# Altium footprint library QFP_Shrink_Sq_40P_Side_N.PcbLib: 26 footprints (part 3 of 3)
Each footprint in its own frame and in the unit in brackets; x right, y up, seen from the top. Pads: shape width x height; smd on the part's side, far side on the other; paste and mask are expansions set on the pad; w line width, h text height; cw(c..) or ccw(c..) is an arc to the next point about the centre after c.
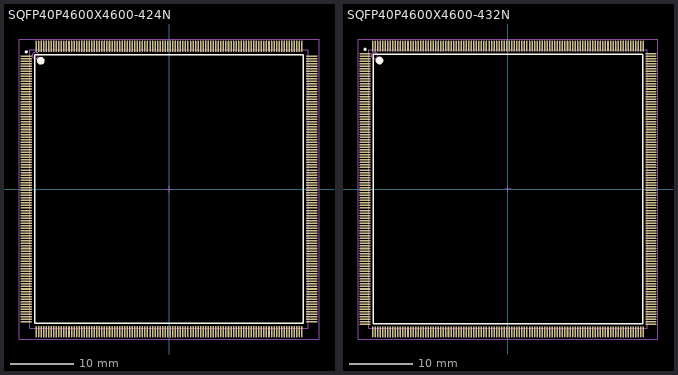
[diagram p2: the footprints below, top view; thin cyan lines are the x and y axes]

## SQFP40P4600X4600-424N [mm] "Shrink QFP, 424-Leads, Body 44x44mm, Pitch 0.4mm, IPC Medium Density"
height 4.2
pads (424):
  oval 1.8x0.24 smd: 1(-22.55,21) 2(-22.55,20.6) 3(-22.55,20.2) 4(-22.55,19.8) 5(-22.55,19.4) 6(-22.55,19) 7(-22.55,18.6) 8(-22.55,18.2) 9(-22.55,17.8) 10(-22.55,17.4) 11(-22.55,17) 12(-22.55,16.6) 13(-22.55,16.2) 14(-22.55,15.8) 15(-22.55,15.4) 16(-22.55,15) 17(-22.55,14.6) 18(-22.55,14.2) 19(-22.55,13.8) 20(-22.55,13.4) 21(-22.55,13) 22(-22.55,12.6) 23(-22.55,12.2) 24(-22.55,11.8) 25(-22.55,11.4) 26(-22.55,11) 27(-22.55,10.6) 28(-22.55,10.2) 29(-22.55,9.8) 30(-22.55,9.4) 31(-22.55,9) 32(-22.55,8.6) 33(-22.55,8.2) 34(-22.55,7.8) 35(-22.55,7.4) 36(-22.55,7) 37(-22.55,6.6) 38(-22.55,6.2) 39(-22.55,5.8) 40(-22.55,5.4) 41(-22.55,5) 42(-22.55,4.6) 43(-22.55,4.2) 44(-22.55,3.8) 45(-22.55,3.4) 46(-22.55,3) 47(-22.55,2.6) 48(-22.55,2.2) 49(-22.55,1.8) 50(-22.55,1.4) 51(-22.55,1) 52(-22.55,0.6) 53(-22.55,0.2) 54(-22.55,-0.2) 55(-22.55,-0.6) 56(-22.55,-1) 57(-22.55,-1.4) 58(-22.55,-1.8) 59(-22.55,-2.2) 60(-22.55,-2.6) 61(-22.55,-3) 62(-22.55,-3.4) 63(-22.55,-3.8) 64(-22.55,-4.2) 65(-22.55,-4.6) 66(-22.55,-5) 67(-22.55,-5.4) 68(-22.55,-5.8) 69(-22.55,-6.2) 70(-22.55,-6.6) 71(-22.55,-7) 72(-22.55,-7.4) 73(-22.55,-7.8) 74(-22.55,-8.2) 75(-22.55,-8.6) 76(-22.55,-9) 77(-22.55,-9.4) 78(-22.55,-9.8) 79(-22.55,-10.2) 80(-22.55,-10.6) 81(-22.55,-11) 82(-22.55,-11.4) 83(-22.55,-11.8) 84(-22.55,-12.2) 85(-22.55,-12.6) 86(-22.55,-13) 87(-22.55,-13.4) 88(-22.55,-13.8) 89(-22.55,-14.2) 90(-22.55,-14.6) 91(-22.55,-15) 92(-22.55,-15.4) 93(-22.55,-15.8) 94(-22.55,-16.2) 95(-22.55,-16.6) 96(-22.55,-17) 97(-22.55,-17.4) 98(-22.55,-17.8) 99(-22.55,-18.2) 100(-22.55,-18.6) 101(-22.55,-19) 102(-22.55,-19.4) 103(-22.55,-19.8) 104(-22.55,-20.2) 105(-22.55,-20.6) 106(-22.55,-21) 213(22.55,-21) 214(22.55,-20.6) 215(22.55,-20.2) 216(22.55,-19.8) 217(22.55,-19.4) 218(22.55,-19) 219(22.55,-18.6) 220(22.55,-18.2) 221(22.55,-17.8) 222(22.55,-17.4) 223(22.55,-17) 224(22.55,-16.6) 225(22.55,-16.2) 226(22.55,-15.8) 227(22.55,-15.4) 228(22.55,-15) 229(22.55,-14.6) 230(22.55,-14.2) 231(22.55,-13.8) 232(22.55,-13.4) 233(22.55,-13) 234(22.55,-12.6) 235(22.55,-12.2) 236(22.55,-11.8) 237(22.55,-11.4) 238(22.55,-11) 239(22.55,-10.6) 240(22.55,-10.2) 241(22.55,-9.8) 242(22.55,-9.4) 243(22.55,-9) 244(22.55,-8.6) 245(22.55,-8.2) 246(22.55,-7.8) 247(22.55,-7.4) 248(22.55,-7) 249(22.55,-6.6) 250(22.55,-6.2) 251(22.55,-5.8) 252(22.55,-5.4) 253(22.55,-5) 254(22.55,-4.6) 255(22.55,-4.2) 256(22.55,-3.8) 257(22.55,-3.4) 258(22.55,-3) 259(22.55,-2.6) 260(22.55,-2.2) 261(22.55,-1.8) 262(22.55,-1.4) 263(22.55,-1) 264(22.55,-0.6) 265(22.55,-0.2) 266(22.55,0.2) 267(22.55,0.6) 268(22.55,1) 269(22.55,1.4) 270(22.55,1.8) 271(22.55,2.2) 272(22.55,2.6) 273(22.55,3) 274(22.55,3.4) 275(22.55,3.8) 276(22.55,4.2) 277(22.55,4.6) 278(22.55,5) 279(22.55,5.4) 280(22.55,5.8) 281(22.55,6.2) 282(22.55,6.6) 283(22.55,7) 284(22.55,7.4) 285(22.55,7.8) 286(22.55,8.2) 287(22.55,8.6) 288(22.55,9) 289(22.55,9.4) 290(22.55,9.8) 291(22.55,10.2) 292(22.55,10.6) 293(22.55,11) 294(22.55,11.4) 295(22.55,11.8) 296(22.55,12.2) 297(22.55,12.6) 298(22.55,13) 299(22.55,13.4) 300(22.55,13.8) 301(22.55,14.2) 302(22.55,14.6) 303(22.55,15) 304(22.55,15.4) 305(22.55,15.8) 306(22.55,16.2) 307(22.55,16.6) 308(22.55,17) 309(22.55,17.4) 310(22.55,17.8) 311(22.55,18.2) 312(22.55,18.6) 313(22.55,19) 314(22.55,19.4) 315(22.55,19.8) 316(22.55,20.2) 317(22.55,20.6) 318(22.55,21)
  oval 0.24x1.8 smd: 107(-21,-22.55) 108(-20.6,-22.55) 109(-20.2,-22.55) 110(-19.8,-22.55) 111(-19.4,-22.55) 112(-19,-22.55) 113(-18.6,-22.55) 114(-18.2,-22.55) 115(-17.8,-22.55) 116(-17.4,-22.55) 117(-17,-22.55) 118(-16.6,-22.55) 119(-16.2,-22.55) 120(-15.8,-22.55) 121(-15.4,-22.55) 122(-15,-22.55) 123(-14.6,-22.55) 124(-14.2,-22.55) 125(-13.8,-22.55) 126(-13.4,-22.55) 127(-13,-22.55) 128(-12.6,-22.55) 129(-12.2,-22.55) 130(-11.8,-22.55) 131(-11.4,-22.55) 132(-11,-22.55) 133(-10.6,-22.55) 134(-10.2,-22.55) 135(-9.8,-22.55) 136(-9.4,-22.55) 137(-9,-22.55) 138(-8.6,-22.55) 139(-8.2,-22.55) 140(-7.8,-22.55) 141(-7.4,-22.55) 142(-7,-22.55) 143(-6.6,-22.55) 144(-6.2,-22.55) 145(-5.8,-22.55) 146(-5.4,-22.55) 147(-5,-22.55) 148(-4.6,-22.55) 149(-4.2,-22.55) 150(-3.8,-22.55) 151(-3.4,-22.55) 152(-3,-22.55) 153(-2.6,-22.55) 154(-2.2,-22.55) 155(-1.8,-22.55) 156(-1.4,-22.55) 157(-1,-22.55) 158(-0.6,-22.55) 159(-0.2,-22.55) 160(0.2,-22.55) 161(0.6,-22.55) 162(1,-22.55) 163(1.4,-22.55) 164(1.8,-22.55) 165(2.2,-22.55) 166(2.6,-22.55) 167(3,-22.55) 168(3.4,-22.55) 169(3.8,-22.55) 170(4.2,-22.55) 171(4.6,-22.55) 172(5,-22.55) 173(5.4,-22.55) 174(5.8,-22.55) 175(6.2,-22.55) 176(6.6,-22.55) 177(7,-22.55) 178(7.4,-22.55) 179(7.8,-22.55) 180(8.2,-22.55) 181(8.6,-22.55) 182(9,-22.55) 183(9.4,-22.55) 184(9.8,-22.55) 185(10.2,-22.55) 186(10.6,-22.55) 187(11,-22.55) 188(11.4,-22.55) 189(11.8,-22.55) 190(12.2,-22.55) 191(12.6,-22.55) 192(13,-22.55) 193(13.4,-22.55) 194(13.8,-22.55) 195(14.2,-22.55) 196(14.6,-22.55) 197(15,-22.55) 198(15.4,-22.55) 199(15.8,-22.55) 200(16.2,-22.55) 201(16.6,-22.55) 202(17,-22.55) 203(17.4,-22.55) 204(17.8,-22.55) 205(18.2,-22.55) 206(18.6,-22.55) 207(19,-22.55) 208(19.4,-22.55) 209(19.8,-22.55) 210(20.2,-22.55) 211(20.6,-22.55) 212(21,-22.55) 319(21,22.55) 320(20.6,22.55) 321(20.2,22.55) 322(19.8,22.55) 323(19.4,22.55) 324(19,22.55) 325(18.6,22.55) 326(18.2,22.55) 327(17.8,22.55) 328(17.4,22.55) 329(17,22.55) 330(16.6,22.55) 331(16.2,22.55) 332(15.8,22.55) 333(15.4,22.55) 334(15,22.55) 335(14.6,22.55) 336(14.2,22.55) 337(13.8,22.55) 338(13.4,22.55) 339(13,22.55) 340(12.6,22.55) 341(12.2,22.55) 342(11.8,22.55) 343(11.4,22.55) 344(11,22.55) 345(10.6,22.55) 346(10.2,22.55) 347(9.8,22.55) 348(9.4,22.55) 349(9,22.55) 350(8.6,22.55) 351(8.2,22.55) 352(7.8,22.55) 353(7.4,22.55) 354(7,22.55) 355(6.6,22.55) 356(6.2,22.55) 357(5.8,22.55) 358(5.4,22.55) 359(5,22.55) 360(4.6,22.55) 361(4.2,22.55) 362(3.8,22.55) 363(3.4,22.55) 364(3,22.55) 365(2.6,22.55) 366(2.2,22.55) 367(1.8,22.55) 368(1.4,22.55) 369(1,22.55) 370(0.6,22.55) 371(0.2,22.55) 372(-0.2,22.55) 373(-0.6,22.55) 374(-1,22.55) 375(-1.4,22.55) 376(-1.8,22.55) 377(-2.2,22.55) 378(-2.6,22.55) 379(-3,22.55) 380(-3.4,22.55) 381(-3.8,22.55) 382(-4.2,22.55) 383(-4.6,22.55) 384(-5,22.55) 385(-5.4,22.55) 386(-5.8,22.55) 387(-6.2,22.55) 388(-6.6,22.55) 389(-7,22.55) 390(-7.4,22.55) 391(-7.8,22.55) 392(-8.2,22.55) 393(-8.6,22.55) 394(-9,22.55) 395(-9.4,22.55) 396(-9.8,22.55) 397(-10.2,22.55) 398(-10.6,22.55) 399(-11,22.55) 400(-11.4,22.55) 401(-11.8,22.55) 402(-12.2,22.55) 403(-12.6,22.55) 404(-13,22.55) 405(-13.4,22.55) 406(-13.8,22.55) 407(-14.2,22.55) 408(-14.6,22.55) 409(-15,22.55) 410(-15.4,22.55) 411(-15.8,22.55) 412(-16.2,22.55) 413(-16.6,22.55) 414(-17,22.55) 415(-17.4,22.55) 416(-17.8,22.55) 417(-18.2,22.55) 418(-18.6,22.55) 419(-19,22.55) 420(-19.4,22.55) 421(-19.8,22.55) 422(-20.2,22.55) 423(-20.6,22.55) 424(-21,22.55)
Top Overlay:
  circle w0.6: c-20.25,20.25 r0.3
  circle w0.25: c-22.55,21.67 r0.125
  lines w0.2: -21.25,-21.25 21.25,-21.25 21.25,21.25 -21.25,21.25 -21.25,-21.25
Mechanical 13:
  circle w0.1: c-21.1,21.1 r0.5
  lines w0.1: -22,-22 22,-22 22,22 -22,22 -22,-22
Mechanical 15:
  lines w0.1: -0.5,0 0.5,0 ; 0,-0.5 0,0.5 ; -23.7,-23.7 23.7,-23.7 23.7,23.7 -23.7,23.7 -23.7,-23.7
3D body: height 4.2, standoff 0, extent -22,-22 22,22

## SQFP40P4600X4600-432N [mm] "Shrink QFP, 432-Leads, Body 44x44mm, Pitch 0.4mm, IPC Medium Density"
height 4.2
pads (432):
  oval 1.75x0.24 smd: 1(-22.575,21.4) 2(-22.575,21) 3(-22.575,20.6) 4(-22.575,20.2) 5(-22.575,19.8) 6(-22.575,19.4) 7(-22.575,19) 8(-22.575,18.6) 9(-22.575,18.2) 10(-22.575,17.8) 11(-22.575,17.4) 12(-22.575,17) 13(-22.575,16.6) 14(-22.575,16.2) 15(-22.575,15.8) 16(-22.575,15.4) 17(-22.575,15) 18(-22.575,14.6) 19(-22.575,14.2) 20(-22.575,13.8) 21(-22.575,13.4) 22(-22.575,13) 23(-22.575,12.6) 24(-22.575,12.2) 25(-22.575,11.8) 26(-22.575,11.4) 27(-22.575,11) 28(-22.575,10.6) 29(-22.575,10.2) 30(-22.575,9.8) 31(-22.575,9.4) 32(-22.575,9) 33(-22.575,8.6) 34(-22.575,8.2) 35(-22.575,7.8) 36(-22.575,7.4) 37(-22.575,7) 38(-22.575,6.6) 39(-22.575,6.2) 40(-22.575,5.8) 41(-22.575,5.4) 42(-22.575,5) 43(-22.575,4.6) 44(-22.575,4.2) 45(-22.575,3.8) 46(-22.575,3.4) 47(-22.575,3) 48(-22.575,2.6) 49(-22.575,2.2) 50(-22.575,1.8) 51(-22.575,1.4) 52(-22.575,1) 53(-22.575,0.6) 54(-22.575,0.2) 55(-22.575,-0.2) 56(-22.575,-0.6) 57(-22.575,-1) 58(-22.575,-1.4) 59(-22.575,-1.8) 60(-22.575,-2.2) 61(-22.575,-2.6) 62(-22.575,-3) 63(-22.575,-3.4) 64(-22.575,-3.8) 65(-22.575,-4.2) 66(-22.575,-4.6) 67(-22.575,-5) 68(-22.575,-5.4) 69(-22.575,-5.8) 70(-22.575,-6.2) 71(-22.575,-6.6) 72(-22.575,-7) 73(-22.575,-7.4) 74(-22.575,-7.8) 75(-22.575,-8.2) 76(-22.575,-8.6) 77(-22.575,-9) 78(-22.575,-9.4) 79(-22.575,-9.8) 80(-22.575,-10.2) 81(-22.575,-10.6) 82(-22.575,-11) 83(-22.575,-11.4) 84(-22.575,-11.8) 85(-22.575,-12.2) 86(-22.575,-12.6) 87(-22.575,-13) 88(-22.575,-13.4) 89(-22.575,-13.8) 90(-22.575,-14.2) 91(-22.575,-14.6) 92(-22.575,-15) 93(-22.575,-15.4) 94(-22.575,-15.8) 95(-22.575,-16.2) 96(-22.575,-16.6) 97(-22.575,-17) 98(-22.575,-17.4) 99(-22.575,-17.8) 100(-22.575,-18.2) 101(-22.575,-18.6) 102(-22.575,-19) 103(-22.575,-19.4) 104(-22.575,-19.8) 105(-22.575,-20.2) 106(-22.575,-20.6) 107(-22.575,-21) 108(-22.575,-21.4) 217(22.575,-21.4) 218(22.575,-21) 219(22.575,-20.6) 220(22.575,-20.2) 221(22.575,-19.8) 222(22.575,-19.4) 223(22.575,-19) 224(22.575,-18.6) 225(22.575,-18.2) 226(22.575,-17.8) 227(22.575,-17.4) 228(22.575,-17) 229(22.575,-16.6) 230(22.575,-16.2) 231(22.575,-15.8) 232(22.575,-15.4) 233(22.575,-15) 234(22.575,-14.6) 235(22.575,-14.2) 236(22.575,-13.8) 237(22.575,-13.4) 238(22.575,-13) 239(22.575,-12.6) 240(22.575,-12.2) 241(22.575,-11.8) 242(22.575,-11.4) 243(22.575,-11) 244(22.575,-10.6) 245(22.575,-10.2) 246(22.575,-9.8) 247(22.575,-9.4) 248(22.575,-9) 249(22.575,-8.6) 250(22.575,-8.2) 251(22.575,-7.8) 252(22.575,-7.4) 253(22.575,-7) 254(22.575,-6.6) 255(22.575,-6.2) 256(22.575,-5.8) 257(22.575,-5.4) 258(22.575,-5) 259(22.575,-4.6) 260(22.575,-4.2) 261(22.575,-3.8) 262(22.575,-3.4) 263(22.575,-3) 264(22.575,-2.6) 265(22.575,-2.2) 266(22.575,-1.8) 267(22.575,-1.4) 268(22.575,-1) 269(22.575,-0.6) 270(22.575,-0.2) 271(22.575,0.2) 272(22.575,0.6) 273(22.575,1) 274(22.575,1.4) 275(22.575,1.8) 276(22.575,2.2) 277(22.575,2.6) 278(22.575,3) 279(22.575,3.4) 280(22.575,3.8) 281(22.575,4.2) 282(22.575,4.6) 283(22.575,5) 284(22.575,5.4) 285(22.575,5.8) 286(22.575,6.2) 287(22.575,6.6) 288(22.575,7) 289(22.575,7.4) 290(22.575,7.8) 291(22.575,8.2) 292(22.575,8.6) 293(22.575,9) 294(22.575,9.4) 295(22.575,9.8) 296(22.575,10.2) 297(22.575,10.6) 298(22.575,11) 299(22.575,11.4) 300(22.575,11.8) 301(22.575,12.2) 302(22.575,12.6) 303(22.575,13) 304(22.575,13.4) 305(22.575,13.8) 306(22.575,14.2) 307(22.575,14.6) 308(22.575,15) 309(22.575,15.4) 310(22.575,15.8) 311(22.575,16.2) 312(22.575,16.6) 313(22.575,17) 314(22.575,17.4) 315(22.575,17.8) 316(22.575,18.2) 317(22.575,18.6) 318(22.575,19) 319(22.575,19.4) 320(22.575,19.8) 321(22.575,20.2) 322(22.575,20.6) 323(22.575,21) 324(22.575,21.4)
  oval 0.24x1.75 smd: 109(-21.4,-22.575) 110(-21,-22.575) 111(-20.6,-22.575) 112(-20.2,-22.575) 113(-19.8,-22.575) 114(-19.4,-22.575) 115(-19,-22.575) 116(-18.6,-22.575) 117(-18.2,-22.575) 118(-17.8,-22.575) 119(-17.4,-22.575) 120(-17,-22.575) 121(-16.6,-22.575) 122(-16.2,-22.575) 123(-15.8,-22.575) 124(-15.4,-22.575) 125(-15,-22.575) 126(-14.6,-22.575) 127(-14.2,-22.575) 128(-13.8,-22.575) 129(-13.4,-22.575) 130(-13,-22.575) 131(-12.6,-22.575) 132(-12.2,-22.575) 133(-11.8,-22.575) 134(-11.4,-22.575) 135(-11,-22.575) 136(-10.6,-22.575) 137(-10.2,-22.575) 138(-9.8,-22.575) 139(-9.4,-22.575) 140(-9,-22.575) 141(-8.6,-22.575) 142(-8.2,-22.575) 143(-7.8,-22.575) 144(-7.4,-22.575) 145(-7,-22.575) 146(-6.6,-22.575) 147(-6.2,-22.575) 148(-5.8,-22.575) 149(-5.4,-22.575) 150(-5,-22.575) 151(-4.6,-22.575) 152(-4.2,-22.575) 153(-3.8,-22.575) 154(-3.4,-22.575) 155(-3,-22.575) 156(-2.6,-22.575) 157(-2.2,-22.575) 158(-1.8,-22.575) 159(-1.4,-22.575) 160(-1,-22.575) 161(-0.6,-22.575) 162(-0.2,-22.575) 163(0.2,-22.575) 164(0.6,-22.575) 165(1,-22.575) 166(1.4,-22.575) 167(1.8,-22.575) 168(2.2,-22.575) 169(2.6,-22.575) 170(3,-22.575) 171(3.4,-22.575) 172(3.8,-22.575) 173(4.2,-22.575) 174(4.6,-22.575) 175(5,-22.575) 176(5.4,-22.575) 177(5.8,-22.575) 178(6.2,-22.575) 179(6.6,-22.575) 180(7,-22.575) 181(7.4,-22.575) 182(7.8,-22.575) 183(8.2,-22.575) 184(8.6,-22.575) 185(9,-22.575) 186(9.4,-22.575) 187(9.8,-22.575) 188(10.2,-22.575) 189(10.6,-22.575) 190(11,-22.575) 191(11.4,-22.575) 192(11.8,-22.575) 193(12.2,-22.575) 194(12.6,-22.575) 195(13,-22.575) 196(13.4,-22.575) 197(13.8,-22.575) 198(14.2,-22.575) 199(14.6,-22.575) 200(15,-22.575) 201(15.4,-22.575) 202(15.8,-22.575) 203(16.2,-22.575) 204(16.6,-22.575) 205(17,-22.575) 206(17.4,-22.575) 207(17.8,-22.575) 208(18.2,-22.575) 209(18.6,-22.575) 210(19,-22.575) 211(19.4,-22.575) 212(19.8,-22.575) 213(20.2,-22.575) 214(20.6,-22.575) 215(21,-22.575) 216(21.4,-22.575) 325(21.4,22.575) 326(21,22.575) 327(20.6,22.575) 328(20.2,22.575) 329(19.8,22.575) 330(19.4,22.575) 331(19,22.575) 332(18.6,22.575) 333(18.2,22.575) 334(17.8,22.575) 335(17.4,22.575) 336(17,22.575) 337(16.6,22.575) 338(16.2,22.575) 339(15.8,22.575) 340(15.4,22.575) 341(15,22.575) 342(14.6,22.575) 343(14.2,22.575) 344(13.8,22.575) 345(13.4,22.575) 346(13,22.575) 347(12.6,22.575) 348(12.2,22.575) 349(11.8,22.575) 350(11.4,22.575) 351(11,22.575) 352(10.6,22.575) 353(10.2,22.575) 354(9.8,22.575) 355(9.4,22.575) 356(9,22.575) 357(8.6,22.575) 358(8.2,22.575) 359(7.8,22.575) 360(7.4,22.575) 361(7,22.575) 362(6.6,22.575) 363(6.2,22.575) 364(5.8,22.575) 365(5.4,22.575) 366(5,22.575) 367(4.6,22.575) 368(4.2,22.575) 369(3.8,22.575) 370(3.4,22.575) 371(3,22.575) 372(2.6,22.575) 373(2.2,22.575) 374(1.8,22.575) 375(1.4,22.575) 376(1,22.575) 377(0.6,22.575) 378(0.2,22.575) 379(-0.2,22.575) 380(-0.6,22.575) 381(-1,22.575) 382(-1.4,22.575) 383(-1.8,22.575) 384(-2.2,22.575) 385(-2.6,22.575) 386(-3,22.575) 387(-3.4,22.575) 388(-3.8,22.575) 389(-4.2,22.575) 390(-4.6,22.575) 391(-5,22.575) 392(-5.4,22.575) 393(-5.8,22.575) 394(-6.2,22.575) 395(-6.6,22.575) 396(-7,22.575) 397(-7.4,22.575) 398(-7.8,22.575) 399(-8.2,22.575) 400(-8.6,22.575) 401(-9,22.575) 402(-9.4,22.575) 403(-9.8,22.575) 404(-10.2,22.575) 405(-10.6,22.575) 406(-11,22.575) 407(-11.4,22.575) 408(-11.8,22.575) 409(-12.2,22.575) 410(-12.6,22.575) 411(-13,22.575) 412(-13.4,22.575) 413(-13.8,22.575) 414(-14.2,22.575) 415(-14.6,22.575) 416(-15,22.575) 417(-15.4,22.575) 418(-15.8,22.575) 419(-16.2,22.575) 420(-16.6,22.575) 421(-17,22.575) 422(-17.4,22.575) 423(-17.8,22.575) 424(-18.2,22.575) 425(-18.6,22.575) 426(-19,22.575) 427(-19.4,22.575) 428(-19.8,22.575) 429(-20.2,22.575) 430(-20.6,22.575) 431(-21,22.575) 432(-21.4,22.575)
Top Overlay:
  circle w0.6: c-20.3,20.3 r0.3
  circle w0.25: c-22.575,22.07 r0.125
  lines w0.2: -21.3,-21.3 21.3,-21.3 21.3,21.3 -21.3,21.3 -21.3,-21.3
Mechanical 13:
  circle w0.1: c-21.1,21.1 r0.5
  lines w0.1: -22,-22 22,-22 22,22 -22,22 -22,-22
Mechanical 15:
  lines w0.1: -0.5,0 0.5,0 ; 0,-0.5 0,0.5 ; -23.7,-23.7 23.7,-23.7 23.7,23.7 -23.7,23.7 -23.7,-23.7
3D body: height 4.2, standoff 0, extent -22,-22 22,22